# EAGLE library part L6203 (library st-microelectronics)
DMOS FULL BRIDGE DRIVER
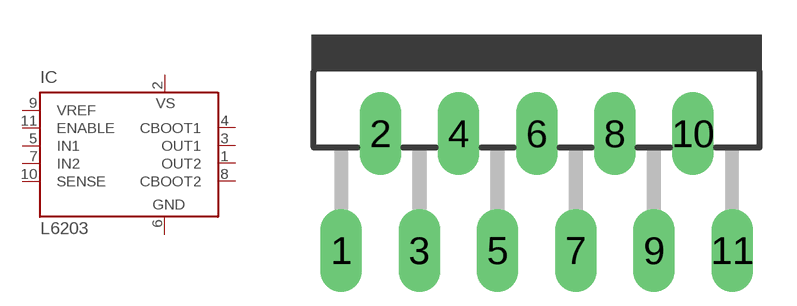
[diagram p18: symbol with the pads of MULTIWATT-11; footprint MULTIWATT-11]

Designator prefix IC

## L6203  [MULTIWATT-11]
1  OUT2  out
2  VS  pwr
3  OUT1  out
4  CBOOT1  in
5  IN1  in
6  GND  pwr
7  IN2  in
8  CBOOT2  in
9  VREF  in
10  SENSE  in
11  ENABLE  in

## Footprint MULTIWATT-11 (pad centres in mm)
Muliwatt 11 lead
drill 1.2 long: 1 -8.5,-6.35; 2 -6.8,-1.27; 3 -5.1,-6.35; 4 -3.4,-1.27; 5 -1.7,-6.35; 6 0,-1.27; 7 1.7,-6.35; 8 3.4,-1.27; 9 5.1,-6.35; 10 6.8,-1.27; 11 8.5,-6.35